# Altium footprint library PCBLib.PcbLib: 31 footprints (part 1 of 2)
Each footprint in its own frame and in the unit in brackets; x right, y up, seen from the top. Pads: shape width x height; smd on the part's side, far side on the other; paste and mask are expansions set on the pad; w line width, h text height; cw(c..) or ccw(c..) is an arc to the next point about the centre after c.
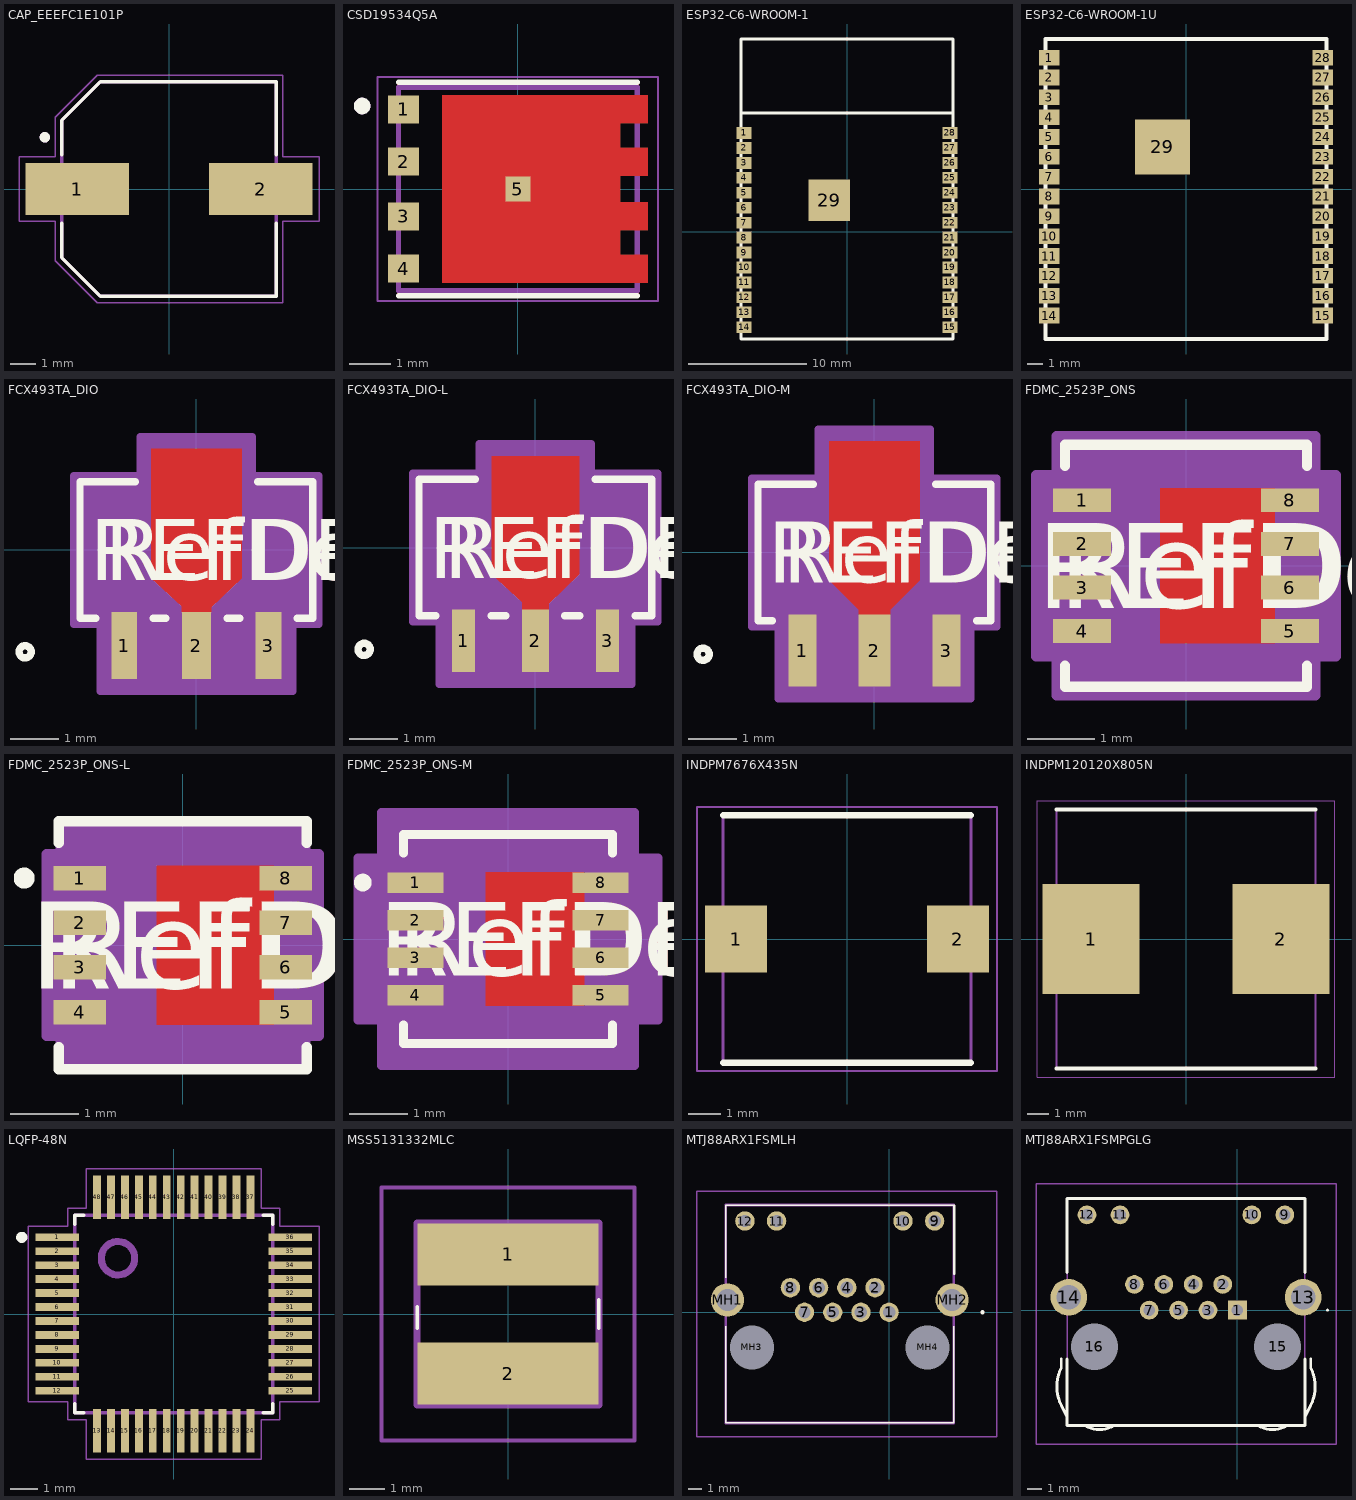
[diagram p0: the footprints below, top view; thin cyan lines are the x and y axes]

## CAP_EEEFC1E101P [mm]
height 10.2
pads (2):
  rect 4x2 smd: 1(-3.55,0) 2(3.55,0)
Top Overlay:
  circle w0.2: c-4.8,2 r0.1
  lines w0.127: -4.15,-1.32 -4.15,-2.65 -2.65,-4.15 4.15,-4.15 4.15,-1.32 ; -4.15,1.32 -4.15,2.65 -2.65,4.15 4.15,4.15 4.15,1.32
Mechanical 13:
  circle w0.2: c-4.8,2 r0.1
  lines w0.127: -4.15,-2.65 -4.15,2.65 -2.65,4.15 4.15,4.15 4.15,-4.15 -2.65,-4.15 -4.15,-2.65
Mechanical 15:
  lines w0.05: -5.8,-1.25 -4.4,-1.25 -4.4,-2.775 -2.775,-4.4 4.4,-4.4 4.4,-1.25 5.8,-1.25 5.8,1.25 4.4,1.25 4.4,4.4 -2.775,4.4 -4.4,2.775 -4.4,1.25 -5.8,1.25 -5.8,-1.25
3D body "step_temp.STEP": height 10.2, standoff 0, extent -4.85,-4.15 4.85,4.15

## CSD19534Q5A [mm]
pads (5):
  rect 0.75x0.675 smd paste-1: 1(-2.752,1.917) 2(-2.752,0.66) 3(-2.752,-0.66) 4(-2.752,-1.917)
  rect 0.6x0.6 smd paste-1 mask+0: 5(0,0)
Top Layer:
  region: 3.127,1.58 2.472,1.58 2.472,0.998 3.127,0.998 3.127,0.323 2.472,0.323 2.472,-0.323 3.127,-0.323 3.127,-0.998 2.472,-0.998 2.472,-1.58 3.127,-1.58 3.127,-2.255 -1.823,-2.255 -1.823,2.255 3.127,2.255
Top Overlay:
  circle w0.2: c-3.75,2 r0.1
  lines w0.127: -2.875,-2.575 2.875,-2.575 ; -2.875,2.575 2.875,2.575
Top Paste:
  region: -0.18,0.31 -1.415,0.31 -1.415,1.88 -0.18,1.88
  region: 1.905,-1.88 0.32,-1.88 0.32,-0.31 1.905,-0.31
  region: -0.18,-1.88 -1.415,-1.88 -1.415,-0.31 -0.18,-0.31
  region: 1.905,0.31 0.32,0.31 0.32,1.88 1.905,1.88
  region: -2.52,1.655 -3.02,1.655 -3.02,2.155 -2.52,2.155
  region: -2.52,0.385 -3.02,0.385 -3.02,0.885 -2.52,0.885
  region: -2.52,-2.155 -3.02,-2.155 -3.02,-1.655 -2.52,-1.655
  region: -2.52,-0.885 -3.02,-0.885 -3.02,-0.385 -2.52,-0.385
  region: 3.02,1.655 2.52,1.655 2.52,2.155 3.02,2.155
  region: 3.02,0.385 2.52,0.385 2.52,0.885 3.02,0.885
  region: 3.02,-2.155 2.52,-2.155 2.52,-1.655 3.02,-1.655
  region: 3.02,-0.885 2.52,-0.885 2.52,-0.385 3.02,-0.385
Top Solder:
  region: 3.227,1.48 2.572,1.48 2.572,1.098 3.227,1.098 3.227,0.222 2.572,0.222 2.572,-0.222 3.227,-0.222 3.227,-1.098 2.572,-1.098 2.572,-1.48 3.227,-1.48 3.227,-2.355 -1.923,-2.355 -1.923,2.355 3.227,2.355
Mechanical 13:
  circle w0.2: c-3.75,2 r0.1
  lines w0.127: -2.875,-2.45 -2.875,2.45 2.875,2.45 2.875,-2.45 -2.875,-2.45
Mechanical 15:
  lines w0.05: -3.377,-2.7 3.377,-2.7 3.377,2.7 -3.377,2.7 -3.377,-2.7

## ESP32-C6-WROOM-1 [mm]
pads (29):
  rect 1.3x1 smd: 1(-8.75,8.41) 2(-8.75,7.14) 3(-8.75,5.87) 4(-8.75,4.6) 5(-8.75,3.33) 6(-8.75,2.06) 7(-8.75,0.79) 8(-8.75,-0.48) 9(-8.75,-1.75) 10(-8.75,-3.02) 11(-8.75,-4.29) 12(-8.75,-5.56) 13(-8.75,-6.83) 14(-8.75,-8.1) 15(8.75,-8.1) 16(8.75,-6.83) 17(8.75,-5.56) 18(8.75,-4.29) 19(8.75,-3.02) 20(8.75,-1.75) 21(8.75,-0.48) 22(8.75,0.79) 23(8.75,2.06) 24(8.75,3.33) 25(8.75,4.6) 26(8.75,5.87) 27(8.75,7.14) 28(8.75,8.41)
  rect 3.5x3.5 smd: 29(-1.505,2.69)
Top Overlay:
  lines w0.254: -9,10.1 9,10.1 ; -9,-9.1 -9,16.4 9,16.4 9,-9.1 -9,-9.1

## ESP32-C6-WROOM-1U [mm]
pads (29):
  rect 1.3x1 smd: 1(-8.75,8.41) 2(-8.75,7.14) 3(-8.75,5.87) 4(-8.75,4.6) 5(-8.75,3.33) 6(-8.75,2.06) 7(-8.75,0.79) 8(-8.75,-0.48) 9(-8.75,-1.75) 10(-8.75,-3.02) 11(-8.75,-4.29) 12(-8.75,-5.56) 13(-8.75,-6.83) 14(-8.75,-8.1) 15(8.75,-8.1) 16(8.75,-6.83) 17(8.75,-5.56) 18(8.75,-4.29) 19(8.75,-3.02) 20(8.75,-1.75) 21(8.75,-0.48) 22(8.75,0.79) 23(8.75,2.06) 24(8.75,3.33) 25(8.75,4.6) 26(8.75,5.87) 27(8.75,7.14) 28(8.75,8.41)
  rect 3.5x3.5 smd: 29(-1.505,2.69)
Top Overlay:
  lines w0.254: -9,-9.6 9,-9.6 9,9.6 -9,9.6 -9,-9.6

## FCX493TA_DIO [mil]
pads (3):
  rect 21x55 smd paste+0 mask+0: 1(-59.06,-78.5) 3(59.06,-78.5)
  rect 24x55 smd paste+0 mask+0: 2(0,-78.5)
Top Layer:
  region: 12,-51 -12,-51 -12,-46 -37,-23 -37,83 37,83 37,-23 12,-47
Top Overlay:
  circle w6: c-140.5,-83.5 r5
  lines w6: -82.66,-56 -95.5,-56 -95.5,56 -50.1,56 ; -35.46,-56 -25.1,-56 ; 25.1,-56 35.46,-56 ; 50.1,56 95.5,56 95.5,-56 82.66,-56
  text "RefDes" at -75,-25 h50
  text "REFDES" at -87.5,-25 h50
Top Paste:
  region: 12,-51 -12,-51 -12,-46 -36,-22 -36,77 36,77 36,-22 12,-46
Top Solder:
  region: 12,-51 -12,-51 -12,-46 -36,-22 -36,77 36,77 36,-22 12,-46
Mechanical 13:
  circle w0: c-80.5,-41 r5
  lines w1: -90.5,-51 -90.5,51 90.5,51 90.5,-51 -90.5,-51 ; -69.56,-98 -48.56,-98 -48.56,-51 -69.56,-51 -69.56,-98 ; -12,-98 12,-98 12,-51 -12,-51 -12,-98 ; 48.56,-98 69.56,-98 69.56,-51 48.56,-51 48.56,-98
  text "RefDes2" at -87.5,-25 h50
Mechanical 15:
  region: -100.5,-61 -100.5,61 -46,61 -46,93 46,93 46,61 100.5,61 100.5,-61 79.06,-61 79.06,-116 -79.06,-116 -79.06,-61
  lines w6: -100.5,-61 -79.06,-61 -79.06,-116 79.06,-116 79.06,-61 100.5,-61 100.5,61 46,61 46,93 -46,93 -46,61 -100.5,61 -100.5,-61
3D body "FCX493TA_DIO.step": height 65.12, standoff 0, extent -90.51,-97.99 90.51,69.02

## FCX493TA_DIO-L [mil]
pads (3):
  rect 19x51 smd paste+0 mask+0: 1(-59.06,-76.5) 3(59.06,-76.5)
  rect 22x51 smd paste+0 mask+0: 2(0,-76.5)
Top Layer:
  region: 11,-51 -11,-51 -11,-45 -36,-22 -36,75 36,75 36,-22 11,-46
Top Overlay:
  circle w6: c-140.5,-83.5 r5
  lines w6: -81.66,-56 -95.5,-56 -95.5,56 -49.1,56 ; -36.46,-56 -24.1,-56 ; 24.1,-56 36.46,-56 ; 49.1,56 95.5,56 95.5,-56 81.66,-56
  text "RefDes" at -75,-25 h50
  text "REFDES" at -87.5,-25 h50
Top Paste:
  region: 11,-50 -11,-50 -11,-45 -35,-21 -35,73 35,73 35,-21 11,-45
Top Solder:
  region: 11,-50 -11,-50 -11,-45 -35,-21 -35,73 35,73 35,-21 11,-45
Mechanical 13:
  circle w0: c-80.5,-41 r5
  lines w1: -90.5,-51 -90.5,51 90.5,51 90.5,-51 -90.5,-51 ; -69.56,-98 -48.56,-98 -48.56,-51 -69.56,-51 -69.56,-98 ; -12,-98 12,-98 12,-51 -12,-51 -12,-98 ; 48.56,-98 69.56,-98 69.56,-51 48.56,-51 48.56,-98
  text "RefDes2" at -87.5,-25 h50
Mechanical 15:
  region: -100.5,-61 -100.5,61 -46,61 -46,85 46,85 46,61 100.5,61 100.5,-61 79.06,-61 79.06,-112 -79.06,-112 -79.06,-61
  lines w6: -100.5,-61 -79.06,-61 -79.06,-112 79.06,-112 79.06,-61 100.5,-61 100.5,61 46,61 46,85 -46,85 -46,61 -100.5,61 -100.5,-61
3D body "FCX493TA_DIO.step": height 65.12, standoff 0, extent -90.51,-97.99 90.51,69.02

## FCX493TA_DIO-M [mil]
pads (3):
  rect 23x59 smd paste+0 mask+0: 1(-59.06,-80.5) 3(59.06,-80.5)
  rect 26x59 smd paste+0 mask+0: 2(0,-80.5)
Top Layer:
  region: 13,-51 -13,-51 -13,-47 -37,-23 -37,91 37,91 37,-23 13,-47
Top Overlay:
  circle w6: c-140.5,-83.5 r5
  lines w6: -83.66,-56 -95.5,-56 -95.5,56 -50.1,56 ; 50.1,56 95.5,56 95.5,-56 83.66,-56
  text "RefDes" at -75,-25 h50
  text "REFDES" at -87.5,-25 h50
Top Paste:
  region: 13,-52 -13,-52 -13,-47 -37,-23 -37,81 37,81 37,-23 13,-47
Top Solder:
  region: 13,-52 -13,-52 -13,-47 -37,-23 -37,81 37,81 37,-23 13,-47
Mechanical 13:
  circle w0: c-80.5,-41 r5
  lines w1: -90.5,-51 -90.5,51 90.5,51 90.5,-51 -90.5,-51 ; -69.56,-98 -48.56,-98 -48.56,-51 -69.56,-51 -69.56,-98 ; -12,-98 12,-98 12,-51 -12,-51 -12,-98 ; 48.56,-98 69.56,-98 69.56,-51 48.56,-51 48.56,-98
  text "RefDes2" at -87.5,-25 h50
Mechanical 15:
  region: -100.5,-61 -100.5,61 -46,61 -46,101 46,101 46,61 100.5,61 100.5,-61 79.06,-61 79.06,-120 -79.06,-120 -79.06,-61
  lines w6: -100.5,-61 -79.06,-61 -79.06,-120 79.06,-120 79.06,-61 100.5,-61 100.5,61 46,61 46,101 -46,101 -46,61 -100.5,61 -100.5,-61
3D body "FCX493TA_DIO.step": height 65.12, standoff 0, extent -90.51,-97.99 90.51,69.02

## FDMC_2523P_ONS [mil]
pads (8):
  rect 34x14 smd paste+0 mask+0: 1(-61,38.39) 2(-61,12.8) 3(-61,-12.8) 4(-61,-38.39) 5(61,-38.39) 6(61,-12.8) 7(61,12.8) 8(61,38.39)
Top Layer:
  region: 52,-45.5 52,45.5 -15,45.5 -15,-45.5
Top Overlay:
  lines w6: -71,-58.49 -71,-71 71,-71 71,-58.49 ; -71,58.49 -71,71 71,71 71,58.49
  text "RefDes" at -75,-25 h50
  text "REFDES" at -87.5,-25 h50
Top Paste:
  region: 52,-45.5 52,45.5 -15,45.5 -15,-45.5
Top Solder:
  region: 52,-45.5 52,45.5 -15,45.5 -15,-45.5
Mechanical 13:
  lines w0: -12,66 ccw(c0,66) 12,66
  lines w1: -66,-66 66,-66 66,66 -66,66 -66,-66
  text "RefDes2" at -87.5,-25 h50
Mechanical 15:
  region: -76,-53.18 -88,-53.18 -88,53.18 -76,53.18 -76,76 76,76 76,53.18 88,53.18 88,-53.18 76,-53.18 76,-76 -76,-76
  lines w6: -88,-53.18 -88,53.18 -76,53.18 -76,76 76,76 76,53.18 88,53.18 88,-53.18 76,-53.18 76,-76 -76,-76 -76,-53.18 -88,-53.18
3D body "FDMC_2523P_ONS.step": height 32.09, standoff 0, extent -65.98,-65.98 65.98,65.98

## FDMC_2523P_ONS-L [mil]
pads (8):
  rect 30x14 smd paste+0 mask+0: 1(-59,38.39) 2(-59,12.8) 3(-59,-12.8) 4(-59,-38.39) 5(59,-38.39) 6(59,-12.8) 7(59,12.8) 8(59,38.39)
Top Layer:
  region: 52,-45.5 52,45.5 -15,45.5 -15,-45.5
Top Overlay:
  circle w6: c-90.8,38.39 r3
  lines w6: -71,-58.49 -71,-71 71,-71 71,-58.49 ; -71,58.49 -71,71 71,71 71,58.49
  text "RefDes" at -75,-25 h50
  text "REFDES" at -87.5,-25 h50
Top Paste:
  region: 52,-45.5 52,45.5 -15,45.5 -15,-45.5
Top Solder:
  region: 52,-45.5 52,45.5 -15,45.5 -15,-45.5
Mechanical 13:
  circle w0: c-44,38.39 r3
  lines w0: -12,66 ccw(c0,66) 12,66
  lines w1: -66,-66 66,-66 66,66 -66,66 -66,-66
  text "RefDes2" at -87.5,-25 h50
Mechanical 15:
  region: -70,-51.98 -78,-51.98 -78,51.98 -70,51.98 -70,70 70,70 70,51.98 78,51.98 78,-51.98 70,-51.98 70,-70 -70,-70
  lines w6: -78,-51.98 -78,51.98 -70,51.98 -70,70 70,70 70,51.98 78,51.98 78,-51.98 70,-51.98 70,-70 -70,-70 -70,-51.98 -78,-51.98
3D body "FDMC_2523P_ONS.step": height 32.09, standoff 0, extent -65.98,-65.98 65.98,65.98

## FDMC_2523P_ONS-M [mil]
pads (8):
  rect 38x14 smd paste+0 mask+0: 1(-63,38.39) 2(-63,12.8) 3(-63,-12.8) 4(-63,-38.39) 5(63,-38.39) 6(63,-12.8) 7(63,12.8) 8(63,38.39)
Top Layer:
  region: 52,-45.5 52,45.5 -15,45.5 -15,-45.5
Top Overlay:
  circle w6: c-98.8,38.39 r3
  lines w6: -71,-58.49 -71,-71 71,-71 71,-58.49 ; -71,58.49 -71,71 71,71 71,58.49
  text "REFDES" at -87.5,-25 h50
  text "RefDes" at -75,-25 h50
Top Paste:
  region: 52,-45.5 52,45.5 -15,45.5 -15,-45.5
Top Solder:
  region: 52,-45.5 52,45.5 -15,45.5 -15,-45.5
Mechanical 13:
  circle w0: c-44,38.39 r3
  lines w0: -12,66 ccw(c0,66) 12,66
  lines w1: -66,-66 -66,66 66,66 66,-66 -66,-66
  text "RefDes2" at -87.5,-25 h50
Mechanical 15:
  region: -86,-55.18 -102,-55.18 -102,55.18 -86,55.18 -86,86 86,86 86,55.18 102,55.18 102,-55.18 86,-55.18 86,-86 -86,-86
  lines w6: -102,-55.18 -86,-55.18 -86,-86 86,-86 86,-55.18 102,-55.18 102,55.18 86,55.18 86,86 -86,86 -86,55.18 -102,55.18 -102,-55.18
3D body "FDMC_2523P_ONS.step": height 32.09, standoff 0, extent -65.98,-65.98 65.98,65.98

## INDPM7676X435N [mm]
pads (2):
  rect 1.9x2.05 smd: 1(-3.4,0) 2(3.4,0)
Top Overlay:
  lines w0.2: -3.8,-3.8 3.8,-3.8 ; -3.8,3.8 3.8,3.8
Mechanical 15:
  lines w0.1: -3.8,-3.8 3.8,-3.8 3.8,3.8 -3.8,3.8 -3.8,-3.8
Mechanical 20:
  lines w0.05: -4.6,-4.05 4.6,-4.05 4.6,4.05 -4.6,4.05 -4.6,-4.05

## INDPM120120X805N [mm]
pads (2):
  rect 4.5x5.1 smd: 1(-4.4,0) 2(4.4,0)
Top Overlay:
  lines w0.2: -6,-6 6,-6 ; -6,6 6,6
Mechanical 15:
  lines w0.1: -6,-6 -6,6 6,6 6,-6 -6,-6
Mechanical 20:
  lines w0.05: -6.9,-6.4 -6.9,6.4 6.9,6.4 6.9,-6.4 -6.9,-6.4

## LQFP-48N [mm]
pads (48):
  rect 1.56x0.28 smd: 1(-4.18,2.75) 2(-4.18,2.25) 3(-4.18,1.75) 4(-4.18,1.25) 5(-4.18,0.75) 6(-4.18,0.25) 7(-4.18,-0.25) 8(-4.18,-0.75) 9(-4.18,-1.25) 10(-4.18,-1.75) 11(-4.18,-2.25) 12(-4.18,-2.75) 25(4.18,-2.75) 26(4.18,-2.25) 27(4.18,-1.75) 28(4.18,-1.25) 29(4.18,-0.75) 30(4.18,-0.25) 31(4.18,0.25) 32(4.18,0.75) 33(4.18,1.25) 34(4.18,1.75) 35(4.18,2.25) 36(4.18,2.75)
  rect 0.28x1.56 smd: 13(-2.75,-4.18) 14(-2.25,-4.18) 15(-1.75,-4.18) 16(-1.25,-4.18) 17(-0.75,-4.18) 18(-0.25,-4.18) 19(0.25,-4.18) 20(0.75,-4.18) 21(1.25,-4.18) 22(1.75,-4.18) 23(2.25,-4.18) 24(2.75,-4.18) 37(2.75,4.18) 38(2.25,4.18) 39(1.75,4.18) 40(1.25,4.18) 41(0.75,4.18) 42(0.25,4.18) 43(-0.25,4.18) 44(-0.75,4.18) 45(-1.25,4.18) 46(-1.75,4.18) 47(-2.25,4.18) 48(-2.75,4.18)
Top Overlay:
  circle w0.2: c-5.45,2.75 r0.1
  lines w0.127: -3.55,-3.22 -3.55,-3.55 -3.22,-3.55 ; -3.55,3.22 -3.55,3.55 -3.22,3.55 ; 3.22,-3.55 3.55,-3.55 3.55,-3.22 ; 3.22,3.55 3.55,3.55 3.55,3.22
Mechanical 13:
  drawing of 53 lines, arcs and shapes, not listed
Mechanical 15:
  lines w0.05: -5.21,-3.14 -5.21,3.14 -3.8,3.14 -3.8,3.8 -3.14,3.8 -3.14,5.21 3.14,5.21 3.14,3.8 3.8,3.8 3.8,3.14 5.21,3.14 5.21,-3.14 3.8,-3.14 3.8,-3.8 3.14,-3.8 3.14,-5.21 -3.14,-5.21 -3.14,-3.8 -3.8,-3.8 -3.8,-3.14 -5.21,-3.14

## MSS5131332MLC [mm]
pads (2):
  rect 5.08x1.74 smd: 1(0,1.67) 2(0,-1.67)
Top Overlay:
  lines w0.1: -2.55,-0.4 -2.55,0.2 ; 2.55,-0.4 2.55,0.4
Mechanical 15:
  lines w0.2: -2.55,-2.55 -2.55,2.55 2.55,2.55 2.55,-2.55 -2.55,-2.55
Mechanical 20:
  lines w0.1: -3.55,-3.55 -3.55,3.55 3.55,3.55 3.55,-3.55 -3.55,-3.55

## MTJ88ARX1FSMLH [mm]
pads (16):
  round 1.4 hole 0.9: 1(0,0) 2(-1.02,1.78) 3(-2.04,0) 4(-3.06,1.78) 5(-4.08,0) 6(-5.1,1.78) 7(-6.12,0) 8(-7.14,1.78) 9(3.29,6.6) 10(1,6.6) 11(-8.14,6.6) 12(-10.43,6.6)
  round 2.4 hole 1.6: MH1(-11.695,0.89) MH2(4.555,0.89)
  round 1.6 hole 3.2 unplated: MH3(-9.92,-2.54) MH4(2.78,-2.54)
Top Overlay:
  lines w0.1: -11.82,-8 4.68,-8 ; -11.82,-8 4.68,-8 ; -11.82,-8 -11.82,-1 -11.82,-8 ; -11.82,7.75 -11.82,2.5 -11.82,7.75 ; -11.82,7.75 4.68,7.75 ; -11.82,7.75 4.68,7.75 ; 4.68,-8 4.68,-1 4.68,-8 ; 4.68,7.75 4.75,7.75 4.75,2.75 4.68,2.75 4.68,7.75
  lines w0.2: 6.7,0 ccw(c6.75,0) 6.8,0 ; 6.7,0 cw(c6.75,0) 6.8,0 ; 6.7,0 ccw(c6.75,0) 6.8,0
Mechanical 15:
  lines w0.2: -11.82,-8 4.68,-8 4.68,7.75 -11.82,7.75 -11.82,-8
Mechanical 20:
  lines w0.1: -13.895,-9 7.8,-9 7.8,8.75 -13.895,8.75 -13.895,-9

## MTJ88ARX1FSMPGLG [mm]
pads (16):
  rect 1.3x1.3 hole 0.8: 1(0,0)
  round 1.3 hole 0.8: 2(-1.02,1.78) 3(-2.04,0) 4(-3.06,1.78) 5(-4.08,0) 6(-5.1,1.78) 7(-6.12,0) 8(-7.14,1.78) 9(3.29,6.6) 10(1,6.6) 11(-8.14,6.6) 12(-10.43,6.6)
  round 2.55 hole 1.7: 13(4.56,0.89) 14(-11.69,0.89)
  round 1.625 hole 3.25 unplated: 15(2.78,-2.54) 16(-9.92,-2.54)
Top Overlay:
  lines w0.1: 6.2,0 cw(c6.25,0) 6.3,0 cw(c6.25,0) 6.2,0
  lines w0.2: -12.217,-4.003 ccw(c-9.615,-5.3) -12.214,-6.602 ; -12.215,-6.6 -11.815,-7.4 ; -12.215,-4 -12.215,-3.4 ; -11.815,-3.4 -11.815,-8 4.685,-8 4.685,-3.4 ; -11.815,2.6 -11.815,7.75 4.685,7.75 4.685,2.6 ; -10.565,-8 -10.365,-8.1 ; -10.366,-8.1 ccw(c-9.565,-6.5) -8.767,-8.101 ; -8.765,-8.1 -8.565,-8 ; 1.435,-8 1.635,-8.1 ; 1.637,-8.101 ccw(c2.435,-6.5) 3.236,-8.1 ; 3.235,-8.1 3.435,-8 ; 4.685,-7.4 5.085,-6.6 ; 5.084,-6.602 ccw(c2.485,-5.3) 5.087,-4.003 ; 5.085,-4 5.085,-3.4
Mechanical 15:
  lines w0.1: -12.217,-4.003 ccw(c-9.615,-5.3) -12.214,-6.602 ; -12.215,-6.6 -11.815,-7.4 ; -12.215,-4 -12.215,-3.4 ; -10.565,-8 -10.365,-8.1 ; -10.366,-8.1 ccw(c-9.565,-6.5) -8.767,-8.101 ; -8.765,-8.1 -8.565,-8 ; 1.435,-8 1.635,-8.1 ; 1.637,-8.101 ccw(c2.435,-6.5) 3.236,-8.1 ; 3.235,-8.1 3.435,-8 ; 4.685,-7.4 5.085,-6.6 ; 5.084,-6.602 ccw(c2.485,-5.3) 5.087,-4.003 ; 5.085,-4 5.085,-3.4 ; -11.815,-8 -11.815,7.75 4.685,7.75 4.685,-8 -11.815,-8
Mechanical 20:
  lines w0.1: -13.965,-9.289 -13.965,8.75 6.835,8.75 6.835,-9.289 -13.965,-9.289